# Altium footprint library switch.PcbLib: 1 footprints
Each footprint in its own frame and in the unit in brackets; x right, y up, seen from the top. Pads: shape width x height; smd on the part's side, far side on the other; paste and mask are expansions set on the pad; w line width, h text height; cw(c..) or ccw(c..) is an arc to the next point about the centre after c.
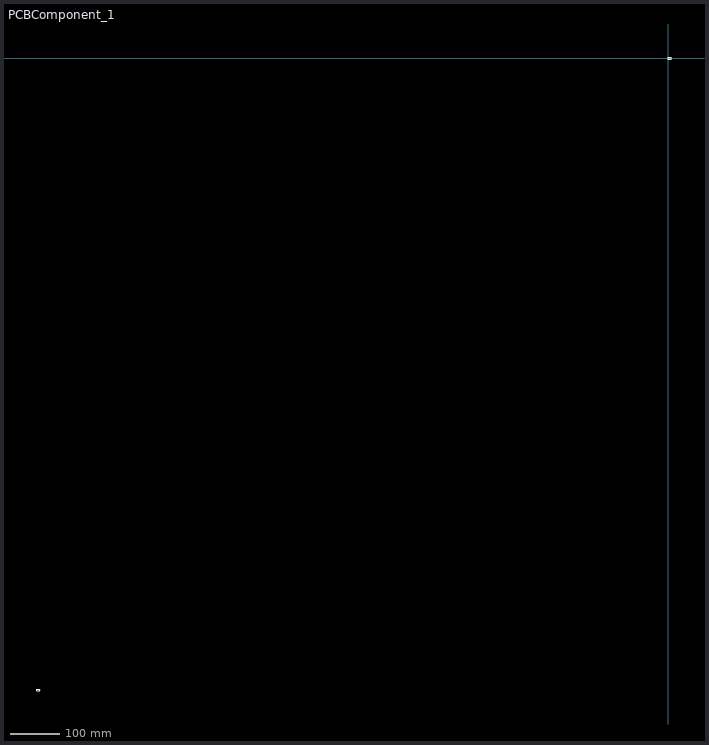
[diagram p0: the footprint, top view; thin cyan lines are the x and y axes]

## PCBComponent_1 [mm]
pads (4):
  rect 1.5x1.5 smd: 1(-1262.5,-1270) 1(0,0) 2(-1270,-1270) 2(7.5,0)
Top Overlay:
  lines w0.254: -1269.111,-1271.651 -1263.269,-1271.651 -1263.269,-1268.222 -1269.111,-1268.222 -1269.111,-1271.651 ; 0.762,-1.778 0.762,1.905 6.604,1.905 6.604,-1.778 0.762,-1.778